# EAGLE library part AVRISP-OLD (library PAS)
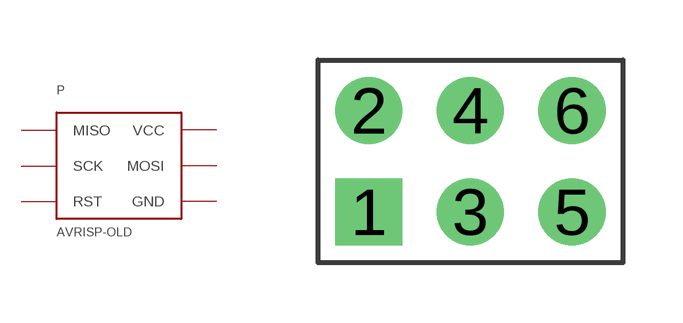
[diagram p6: symbol with the pads of AVRISP; footprint AVRISP]

Designator prefix P

## AVRISP-OLD  [AVRISP]
1  MISO  pas
2  VCC  pas
3  SCK  pas
4  MOSI  pas
5  RST  pas
6  GND  pas

## Footprint AVRISP (pad centres in mm)
drill 0.8 pad 1.676 square: 1 -2.54,-1.27
drill 0.8 pad 1.676 round: 2 -2.54,1.27; 3 0,-1.27; 4 0,1.27; 5 2.54,-1.27; 6 2.54,1.27